# EAGLE library part LCD (library lcd)
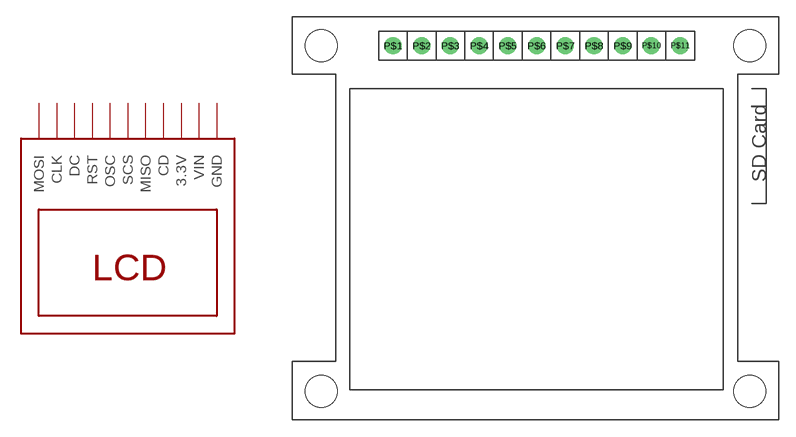
[diagram p0: symbol with the pads of 1.27"_LCD; footprint 1.27"_LCD]

Designator prefix LCD

## LCD  [1.27"_LCD]
P$1  MOSI
P$2  CLK
P$3  DC
P$4  RST
P$5  OSC
P$6  SCS
P$7  MISO
P$8  CD
P$9  3.3V
P$10  VIN
P$11  GND

## Footprint 1.27"_LCD (pad centres in mm)
drill 1: P$1 8.89,-2.54; P$2 11.43,-2.54; P$3 13.97,-2.54; P$4 16.51,-2.54; P$5 19.05,-2.54; P$6 21.59,-2.54; P$7 24.13,-2.54; P$8 26.67,-2.54; P$9 29.21,-2.54; P$10 31.75,-2.54; P$11 34.29,-2.54
hole 2.8 at 2.54,-2.54
hole 2.8 at 2.54,-33.147
hole 2.8 at 40.45,-2.54
hole 2.8 at 40.45,-33.147